# Altium schematic symbol library Switches.SchLib: 3 symbols
Pins are listed as number, name and electrical type; pins without a type are passive.

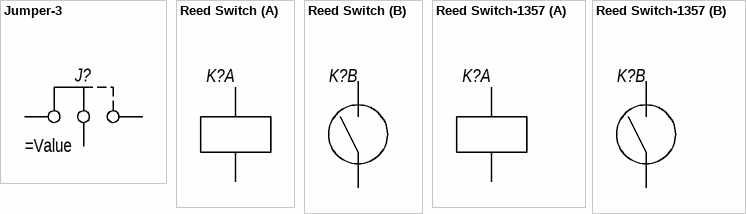
[diagram p0: symbols Jumper-3 to Reed Switch-1357]

## Jumper-3
designator J?
pins: 1, 2, 3

## Reed Switch
designator K?
part A pins: 2, 13, 6
part B pins: 1, 14, 7, 8

## Reed Switch-1357
designator K?
part A pins: 3, 5
part B pins: 1, 7